# EAGLE library part 653113124022 (library WR-WTB)
WR-WTB 1.25 mm SMT Male Vertical Shrouded Header Material Properties Insulator Material PA9T Insulator Flammability Rating UL94 V-0 Color Ivory Contact Material Copper Alloy Contact Plating Tin Contact Type Stamped Certification UL Approval E323964 General Information Operating Temperature -40 °C up to +85 °C Compliance RoHS IR 1 A Working Voltage 125 V (AC) Withstanding Voltage 250 V (AC) Contact Resistance 20 mΩ RISO 100 MΩ Pitch 1.25 mm Gender Male Type Vertical Packaging Properties Packaging Tape and Reel <https://www.we-online.com/components/media/o33372v209%206531xx124022_Multi-parts.jpg> Details see: www.we-online.com/en/components/products/WTB_1_25_SMT_MALE_VERTICAL_SHROUDED_HEADER_6531XX124022 <www.we-online.com/catalog/WTB_1_25_SMT_MALE_VERTICAL_SHROUDED_HEADER_6531XX124022/?utm_source=eagle_model&utm_medium=description_link&utm_campaign=eisos_eagle> Updated by Ella 2025-03-06 2025 (C) Würth Elektronik
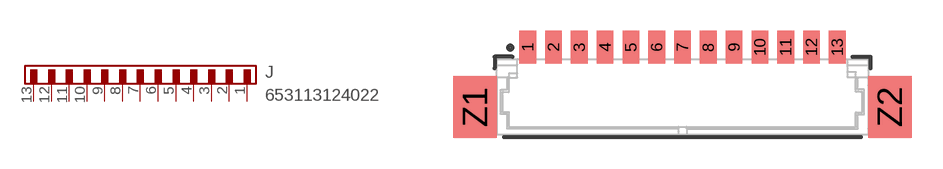
[diagram p89: symbol with the pads of 653113124022; footprint 653113124022]

Designator prefix J

## 653113124022 (CONTACT-RESISTANCE: 20mOhm; DATASHEET-URL: https://www.we-online.com/redexpert/spec/653113124022?ae; GENDER: Male; IR: 1A; L: 21mm; MOUNT: SMT; PACKAGING: Tape and Reel; PART-NUMBER: 653113124022; PCB-CABLE-PANEL: PCB; PINS: 13; PITCH: 1.25mm; TYPE: Vertical; VALUE: 653113124022; WORKING-VOLTAGE: 125V(AC))  [653113124022]
1  1  pas
2  2  pas
3  3  pas
4  4  pas
5  5  pas
6  6  pas
7  7  pas
8  8  pas
9  9  pas
10  10  pas
11  11  pas
12  12  pas
13  13  pas

## Footprint 653113124022 (pad centres in mm)
WR-WTB 1.25 mm SMT Male Vertical Shrouded Header,13 Pins
smd 0.81 x 1.6: 1 -7.5,2.41; 2 -6.25,2.41; 3 -5,2.41; 4 -3.75,2.41; 5 -2.5,2.41; 6 -1.25,2.41; 7 0,2.41; 8 1.25,2.41; 9 2.5,2.41; 10 3.75,2.41; 11 5,2.41; 12 6.25,2.41; 13 7.5,2.41
smd 2.1 x 3: Z1 -10.05,-0.49; Z2 10.05,-0.49